# Altium footprint library tjs_perimeter.PcbLib: 11 footprints
Each footprint in its own frame and in the unit in brackets; x right, y up, seen from the top. Pads: shape width x height; smd on the part's side, far side on the other; paste and mask are expansions set on the pad; w line width, h text height; cw(c..) or ccw(c..) is an arc to the next point about the centre after c.
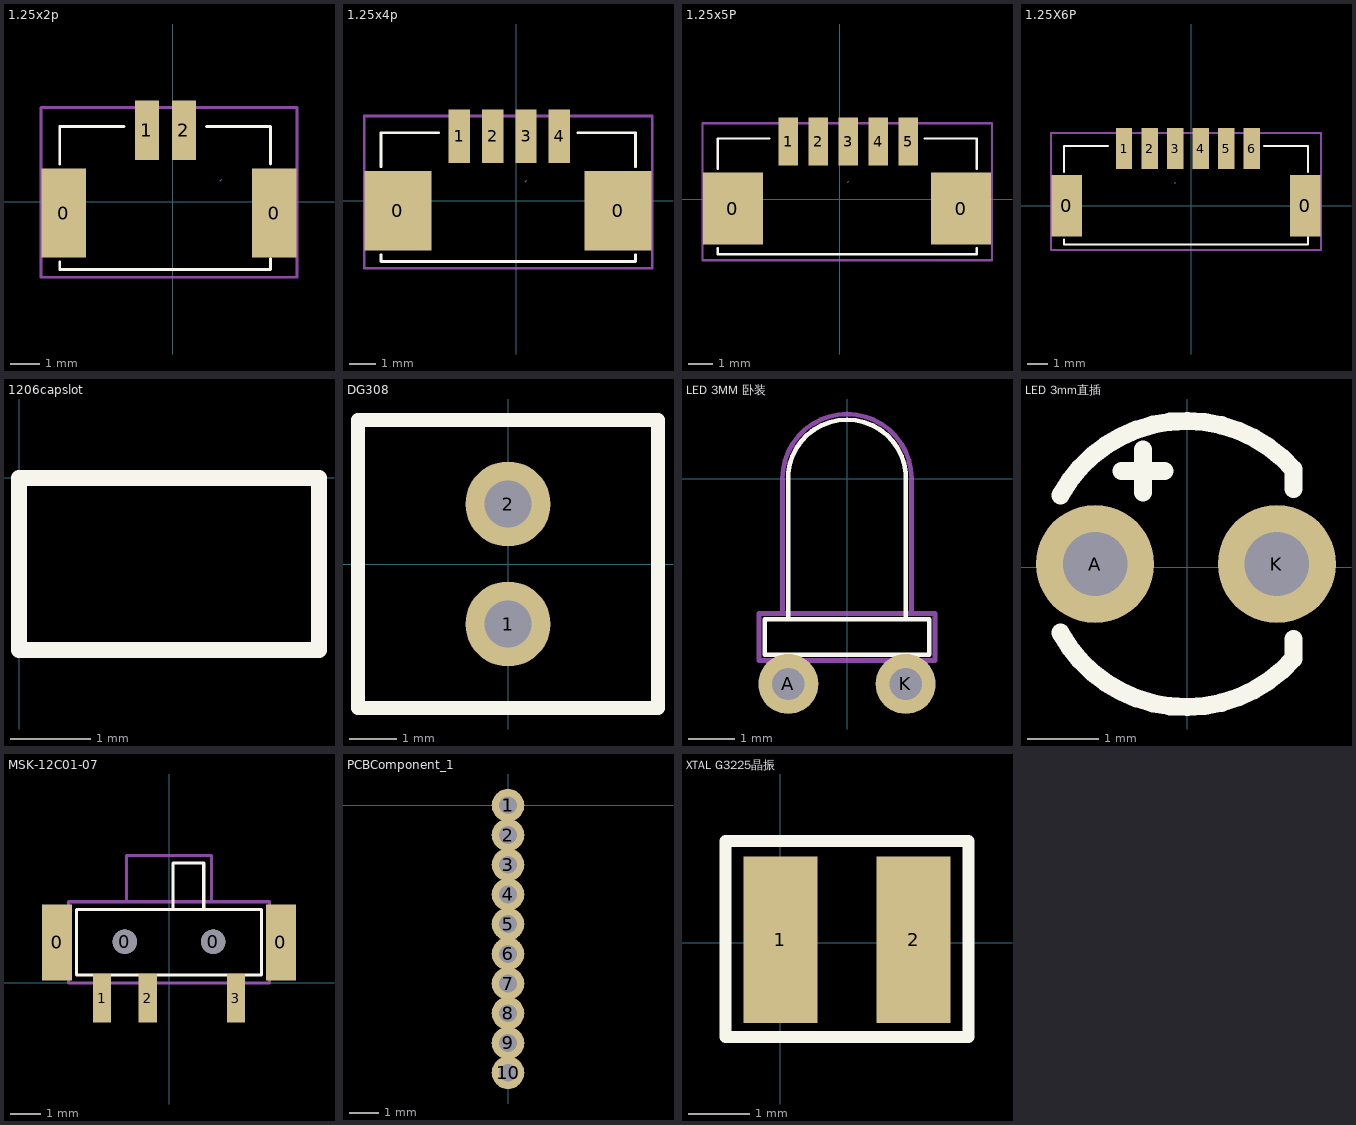
[diagram p0: the footprints below, top view; thin cyan lines are the x and y axes]

## 1.25x2p [mm]
pads (4):
  rect 1.5x3 smd: 0(-3.683,-0.381) 0(3.429,-0.381)
  rect 0.8x2 smd: 1(-0.872,2.41) 2(0.378,2.41)
Top Overlay:
  lines w0.1: -3.81,-2.032 -3.81,-2.286 3.302,-2.286 3.302,-1.905 ; -3.81,1.27 -3.81,2.54 -1.651,2.54 ; 1.143,2.54 3.302,2.54 3.302,1.27
Mechanical 13:
  lines w0.1: -4.445,-2.54 -4.445,3.175 4.191,3.175 4.191,-2.54 -4.445,-2.54
Mechanical 15:
  lines w0.003: 1.603,0.708 1.653,0.759

## 1.25x4p [mm]
pads (6):
  rect 2.5x3 smd: 0(-4.445,-0.381) 0(3.81,-0.381)
  rect 0.8x2 smd: 1(-2.142,2.41) 2(-0.892,2.41) 3(0.358,2.41) 4(1.608,2.41)
Top Overlay:
  lines w0.1: -5.08,-2.032 -5.08,-2.286 4.445,-2.286 ; -5.08,1.27 -5.08,2.54 -2.921,2.54 ; 2.306,2.54 4.465,2.54 4.465,1.27 ; 4.465,-2.286 4.465,-2.032
Mechanical 13:
  lines w0.1: 5.08,-2.54 -5.715,-2.54 -5.715,3.175 5.08,3.175 ; 5.1,-2.54 5.1,3.175
Mechanical 15:
  lines w0.003: 0.333,0.708 0.383,0.759

## 1.25x5P [mm]
pads (7):
  rect 2.5x3 smd: 0(-4.445,-0.381) 0(5.06,-0.381)
  rect 0.8x2 smd: 1(-2.142,2.41) 2(-0.892,2.41) 3(0.358,2.41) 4(1.608,2.41) 5(2.858,2.41)
Top Overlay:
  lines w0.1: -5.08,-2.032 -5.08,-2.286 5.715,-2.286 5.715,-2.032 ; -5.08,1.27 -5.08,2.54 -2.921,2.54 ; 3.556,2.54 5.715,2.54 5.715,1.27
Mechanical 13:
  lines w0.1: -5.715,-2.54 6.35,-2.54 6.35,3.175 -5.715,3.175 -5.715,-2.54
Mechanical 15:
  lines w0.003: 0.333,0.708 0.383,0.759

## 1.25X6P [mm]
pads (8):
  rect 1.5x3 smd: 0(-6.096,0) 0(5.588,0)
  rect 0.8x2 smd: 1(-3.285,2.791) 2(-2.035,2.791) 3(-0.785,2.791) 4(0.465,2.791) 5(1.715,2.791) 6(2.965,2.791)
Top Overlay:
  lines w0.1: -6.223,-1.651 -6.223,-1.905 5.715,-1.905 5.715,-1.524 ; -6.223,1.651 -6.223,2.921 -4.064,2.921 ; 3.556,2.921 5.715,2.921 5.715,1.651
Mechanical 13:
  lines w0.1: -6.858,-2.159 -6.858,3.556 6.35,3.556 6.35,-2.159 -6.858,-2.159
Mechanical 15:
  lines w0.003: -0.81,1.089 -0.76,1.14

## 1206capslot [mm]
Top Overlay:
  lines w0.2: 0,-2.15 0,0 3.75,0 3.75,-2.15 0,-2.15

## DG308 [mm]
pads (2):
  round 1.8 hole 1: 1(0,-1.27) 2(0,1.27)
Top Overlay:
  lines w0.3: -3.175,-3.048 -3.175,3.048 3.175,3.048 3.175,0 3.175,-3.048 0,-3.048 -3.175,-3.048

## LED 3MM 卧装 [mm]
pads (2):
  round 1.3 hole 0.7: A(-1.27,-4.445) K(1.27,-4.445)
Top Overlay:
  lines w0.1: -1.524,-4.318 -1.016,-4.318 ; -1.27,-4.699 -1.27,-4.064 ; -1.27,-3.048 -1.27,0.127 cw(c0,0) 1.27,0.127 1.27,-3.048 ; 1.27,-4.699 1.27,-4.064 ; -1.778,-3.81 -1.778,-3.048 1.778,-3.048 1.778,-3.81 -1.778,-3.81
Mechanical 13:
  lines w0.1: -1.397,-2.921 -1.397,0 cw(c0,0) 1.397,0 1.397,-2.921 ; -1.905,-3.937 -1.905,-3.747 -1.905,-2.921 1.905,-2.921 1.905,-3.937 -1.905,-3.937

## LED 3mm直插 [mil]
pads (2):
  round 65 hole 35.43: A(-50.56,1.66) K(49.44,1.66)
Top Overlay:
  lines w10: -69.63,-36.14 ccw(c-0.56,1.66) 58.49,-50.42 58.49,-39.7 ; -69.63,39.47 cw(c-0.56,1.66) 58.49,53.75 58.49,43.03 ; -36,52.84 -12.37,52.84 ; -24.18,41.03 -24.18,64.66

## MSK-12C01-07 [mm]
pads (7):
  rect 1x2.5 smd: 0(-3.683,1.333) 0(3.683,1.333)
  round 0.8 hole 0.8: 0(-1.45,1.35) 0(1.45,1.35)
  rect 0.6x1.6 smd: 1(-2.2,-0.508) 2(-0.7,-0.508) 3(2.2,-0.508)
Top Overlay:
  lines w0.1: 0.127,2.413 0.127,3.937 1.143,3.937 1.143,2.413 ; -3.048,0.254 -3.048,2.413 3.048,2.413 3.048,0.254 -3.048,0.254
Mechanical 13:
  lines w0.1: -1.397,2.667 -1.397,4.191 0.127,4.191 1.4,4.191 1.4,2.667 ; -3.302,0 3.302,0 3.302,2.667 -3.302,2.667 -3.302,0

## PCBComponent_1 [mm]
pads (11):
  round 1.1 hole 0.6: 1(0,0) 1(0,0) 2(0,-1) 3(0,-2) 4(0,-3) 5(0,-4) 6(0,-5) 7(0,-6) 8(0,-7) 9(0,-8) 10(0,-9)

## XTAL G3225晶振 [mm]
pads (2):
  rect 1.2x2.7 smd: 1(0,0.05) 2(2.159,0.05)
Top Overlay:
  lines w0.2: -0.889,-1.524 -0.889,1.651 3.048,1.651 3.048,1.016 3.048,-1.524 -0.889,-1.524